# EAGLE library part PINHD-1X8 (library pinhead)
PIN HEADER
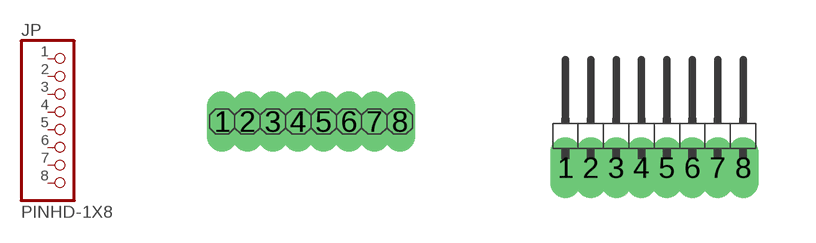
[diagram p2: symbol with the pads of 1X08; footprints 1X08, 1X08/90]

Designator prefix JP

## PINHD-1X8  [1X08]
1  1  pas
2  2  pas
3  3  pas
4  4  pas
5  5  pas
6  6  pas
7  7  pas
8  8  pas

## PINHD-1X8/90  [1X08/90]
Pads as for 1X08

## Footprint 1X08 (pad centres in mm)
PIN HEADER
drill 0.254 long: 1 -2.223,0; 2 -1.587,0; 3 -0.953,0; 4 -0.318,0; 5 0.318,0; 6 0.953,0; 7 1.587,0; 8 2.223,0

## Footprint 1X08/90 (pad centres in mm)
PIN HEADER
drill 0.254 long: 1 -2.223,-0.953; 2 -1.587,-0.953; 3 -0.953,-0.953; 4 -0.318,-0.953; 5 0.318,-0.953; 6 0.953,-0.953; 7 1.587,-0.953; 8 2.223,-0.953